# EAGLE library part TCA440 (library Radio)
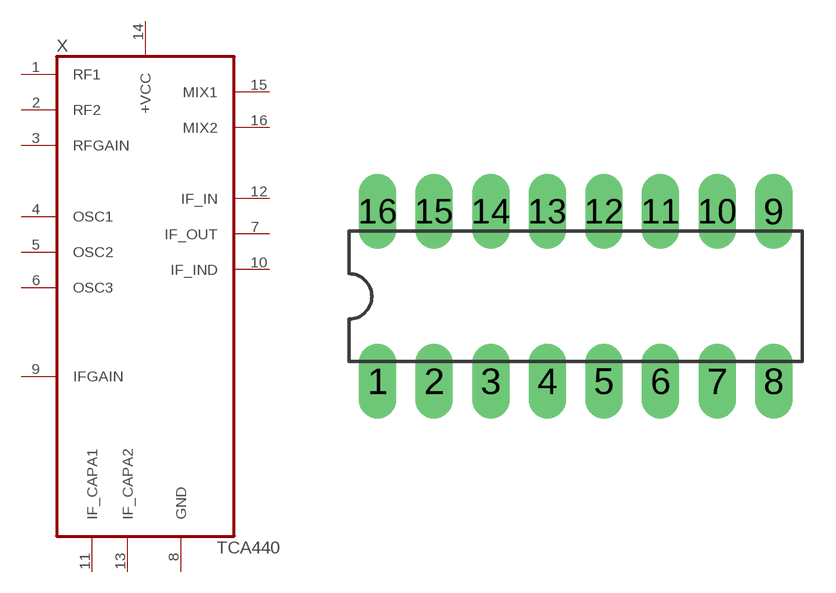
[diagram p1: symbol with the pads of DIL16; footprint DIL16]

Designator prefix X

## TCA440  [DIL16]
1  RF1  in
2  RF2  in
3  RFGAIN  in
4  OSC1  in
5  OSC2  in
6  OSC3  in
7  IF_OUT  out
8  GND  pwr
9  IFGAIN  in
10  IF_IND  out
11  IF_CAPA1  in
12  IF_IN  in
13  IF_CAPA2  in
14  +VCC  pwr
15  MIX1  out
16  MIX2  out

## Footprint DIL16 (pad centres in mm)
drill 0.813 pad 1.676 long: 1 -7.62,-3.81; 2 -5.08,-3.81; 3 -2.54,-3.81; 4 0,-3.81; 5 2.54,-3.81; 6 5.08,-3.81; 7 7.62,-3.81; 8 10.16,-3.81; 9 10.16,3.81; 10 7.62,3.81; 11 5.08,3.81; 12 2.54,3.81; 13 0,3.81; 14 -2.54,3.81; 15 -5.08,3.81; 16 -7.62,3.81